# Altium footprint library LMB12STP.PcbLib: 1 footprints
Each footprint in its own frame and in the unit in brackets; x right, y up, seen from the top. Pads: shape width x height; smd on the part's side, far side on the other; paste and mask are expansions set on the pad; w line width, h text height; cw(c..) or ccw(c..) is an arc to the next point about the centre after c.
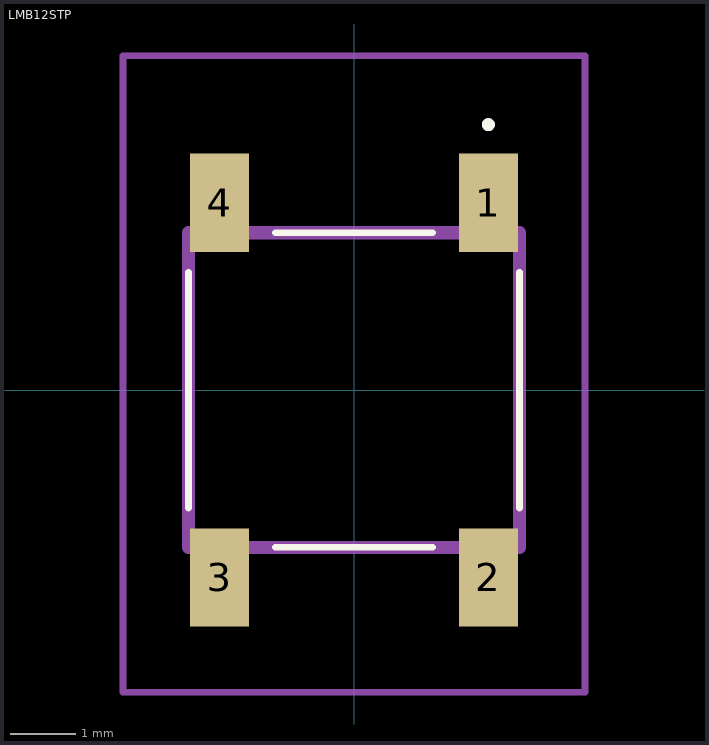
[diagram p0: the footprint, top view; thin cyan lines are the x and y axes]

## LMB12STP [mm]
pads (4):
  rect 0.9x1.5 smd: 1(2.05,2.86) 2(2.05,-2.86) 3(-2.05,-2.86) 4(-2.05,2.86)
Top Overlay:
  lines w0.1: -2.525,-1.8 -2.525,1.8 ; -1.2,-2.4 1.2,-2.4 ; -1.2,2.4 1.2,2.4 ; 2.525,-1.8 2.525,1.8 ; 2.05,4 2.05,4 ; 2.05,4 ccw(c2.05,4.05) 2.05,4.1 ; 2.05,4 cw(c2.05,4.05) 2.05,4.1 ; 2.05,4.1 2.05,4.1
Mechanical 15:
  lines w0.2: -2.525,-2.4 2.525,-2.4 2.525,2.4 -2.525,2.4 -2.525,-2.4
Mechanical 20:
  lines w0.1: -3.525,-4.61 3.525,-4.61 3.525,5.1 -3.525,5.1 -3.525,-4.61